# Altium footprint library SON50P100X145X55-6N.PcbLib: 1 footprints
Each footprint in its own frame and in the unit in brackets; x right, y up, seen from the top. Pads: shape width x height; smd on the part's side, far side on the other; paste and mask are expansions set on the pad; w line width, h text height; cw(c..) or ccw(c..) is an arc to the next point about the centre after c.
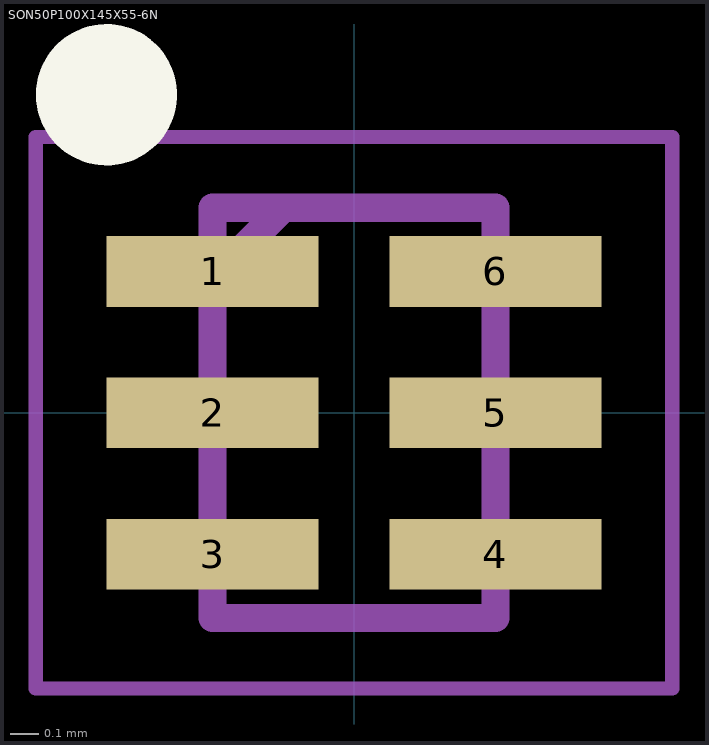
[diagram p0: the footprint, top view; thin cyan lines are the x and y axes]

## SON50P100X145X55-6N [mm]
pads (6):
  rect 0.75x0.25 smd: 1(-0.5,0.5) 2(-0.5,0) 3(-0.5,-0.5) 4(0.5,-0.5) 5(0.5,0) 6(0.5,0.5)
L26-Silk Screen Top (Multiple PADS layers...):
  circle w0.25: c-0.875,1.125 r0.125
L15 (Multiple PADS layers...):
  lines w0.1: -0.5,0.475 -0.25,0.725 ; -0.5,-0.725 0.5,-0.725 0.5,0.725 -0.5,0.725 -0.5,-0.725
L20:
  lines w0.05: -1.125,-0.975 1.125,-0.975 1.125,0.975 -1.125,0.975 -1.125,-0.975